# Altium footprint library ROV_custom.PcbLib: 5 footprints
Each footprint in its own frame and in the unit in brackets; x right, y up, seen from the top. Pads: shape width x height; smd on the part's side, far side on the other; paste and mask are expansions set on the pad; w line width, h text height; cw(c..) or ccw(c..) is an arc to the next point about the centre after c.
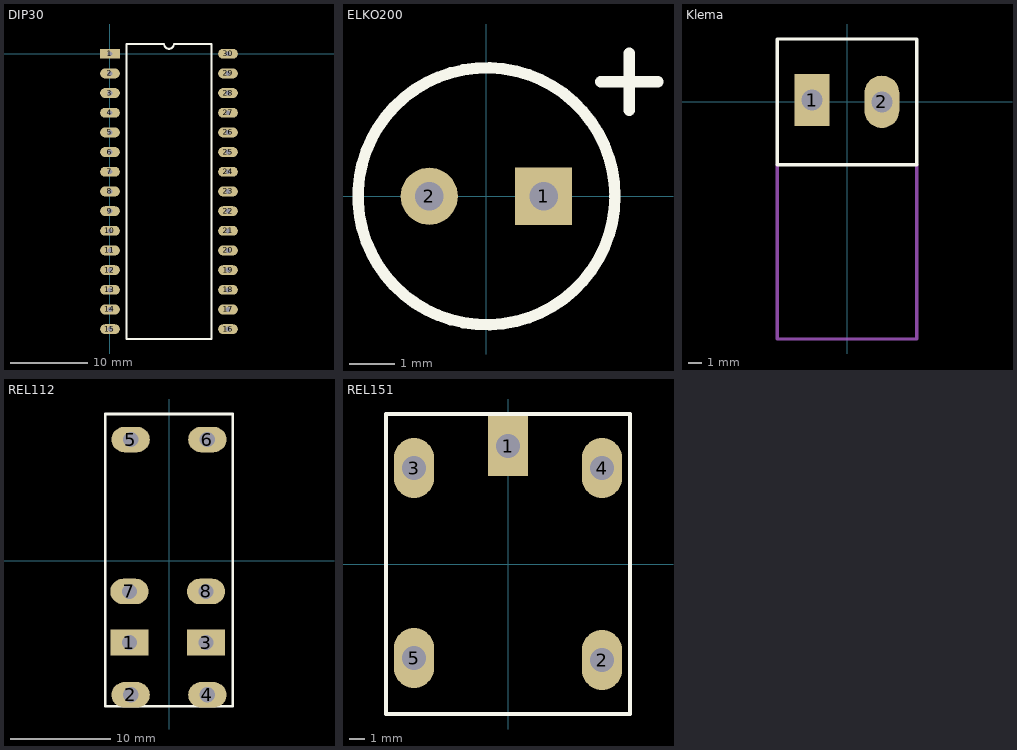
[diagram p0: the footprints below, top view; thin cyan lines are the x and y axes]

## DIP30 [mil]
pads (30):
  rect 100x50 hole 25: 1(0,0)
  oval 100x50 hole 25: 2(0,-100) 3(0,-200) 4(0,-300) 5(0,-400) 6(0,-500) 7(0,-600) 8(0,-700) 9(0,-800) 10(0,-900) 11(0,-1000) 12(0,-1100) 13(0,-1200) 14(0,-1300) 15(0,-1400) 16(600,-1400) 17(600,-1300) 18(600,-1200) 19(600,-1100) 20(600,-1000) 21(600,-900) 22(600,-800) 23(600,-700) 24(600,-600) 25(600,-500) 26(600,-400) 27(600,-300) 28(600,-200) 29(600,-100) 30(600,0)
Top Overlay:
  lines w10: 85,-1450 85,50 275,50 ccw(c300,50) 325,50 515,50 515,-1450 85,-1450

## ELKO200 [mil]
pads (2):
  rect 50x50 hole 25: 1(50,0)
  round 50 hole 25: 2(-50,0)
Top Overlay:
  circle w10: c0,0 r112.36
  lines w10: 100,100 150,100 ; 125,75 125,125

## Klema [mil]
pads (2):
  rect 100x150 hole 60: 1(-100,5)
  oval 100x150 hole 60: 2(100,0)
Top Overlay:
  lines w10: -200,-180 200,-180 200,180 -200,180 -200,-180
Mechanical 1:
  lines w10: -200,-180 -200,-680 200,-680 200,-180

## REL112 [mil]
pads (8):
  rect 150x100 hole 60: 1(-155,-320) 3(145,-320)
  oval 150x100 hole 60: 2(-150,-525) 4(150,-525) 5(-150,475) 6(150,475) 7(-155,-120) 8(145,-120)
Top Overlay:
  lines w10: -250,-570 -250,575 250,575 250,-570 -250,-570

## REL151 [mil]
pads (5):
  rect 100x150 hole 60: 1(0,295)
  oval 100x150 hole 60: 2(235,-240) 3(-235,240) 4(235,240) 5(-235,-235)
Top Overlay:
  lines w10: -305,-375 -305,375 305,375 305,-375 -305,-375